# Altium schematic symbol library FDC6312P.Schlib: 1 symbol
Pins are listed as number, name and electrical type; pins without a type are passive.

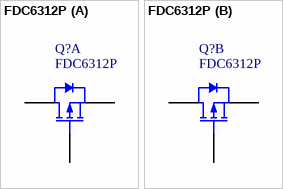
[diagram p0: symbol FDC6312P]

## FDC6312P
designator Q?
MOSFET 2P-CH 20V 2.3A SSOT-6
part A pins: 1 G1, 5 S1, 6 D1
part B pins: 2 S2, 3 G2, 4 D2